# EAGLE library part STM32F103C8T6_DEV (library extra)
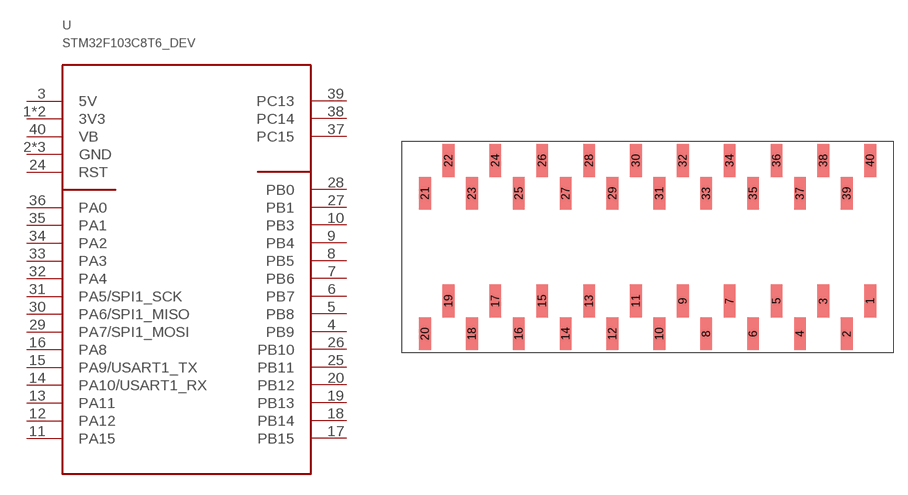
[diagram p2: symbol with the pads of STM32F103C8T6_DEV_SMD; footprint STM32F103C8T6_DEV_SMD]

Designator prefix -

## STM32F103C8T6_DEV  [STM32F103C8T6_DEV_SMD]
1  3V3
2  GND
3  5V
4  PB9
5  PB8
6  PB7
7  PB6
8  PB5
9  PB4
10  PB3
11  PA15
12  PA12
13  PA11
14  PA10/USART1_RX
15  PA9/USART1_TX
16  PA8
17  PB15
18  PB14
19  PB13
20  PB12
21  GND
22  GND
23  3V3
24  RST
25  PB11
26  PB10
27  PB1
28  PB0
29  PA7/SPI1_MOSI
30  PA6/SPI1_MISO
31  PA5/SPI1_SCK
32  PA4
33  PA3
34  PA2
35  PA1
36  PA0
37  PC15
38  PC14
39  PC13
40  VB

## Footprint STM32F103C8T6_DEV_SMD (pad centres in mm)
smd 1.27 x 3.556: 1 50.8,5.588; 2 48.26,2.032; 3 45.72,5.588; 4 43.18,2.032; 5 40.64,5.588; 6 38.1,2.032; 7 35.56,5.588; 8 33.02,2.032; 9 30.48,5.588; 10 27.94,2.032; 11 25.4,5.588; 12 22.86,2.032; 13 20.32,5.588; 14 17.78,2.032; 15 15.24,5.588; 16 12.7,2.032; 17 10.16,5.588; 18 7.62,2.032; 19 5.08,5.588; 20 2.54,2.032; 21 2.54,17.272; 22 5.08,20.828; 23 7.62,17.272; 24 10.16,20.828; 25 12.7,17.272; 26 15.24,20.828; 27 17.78,17.272; 28 20.32,20.828; 29 22.86,17.272; 30 25.4,20.828; 31 27.94,17.272; 32 30.48,20.828; 33 33.02,17.272; 34 35.56,20.828; 35 38.1,17.272; 36 40.64,20.828; 37 43.18,17.272; 38 45.72,20.828; 39 48.26,17.272; 40 50.8,20.828